# EAGLE library part BEAGLEBONE_GREEN (library Modules)
BeagleBone Green | AM335x 1GHz ARMR Cortex-A8 Development Board Homepage <https://beagleboard.org/green> | Wiki <http://wiki.seeed.cc/BeagleBone_Green/> | Schematic <https://github.com/SeeedDocument/BeagleBone_Green/raw/master/resources/BEAGLEBONE_GREEN_V1.pdf> | System Reference Manual <http://www.mouser.com/pdfdocs/Seeed-BBG_SRM_V3_20150804.pdf>
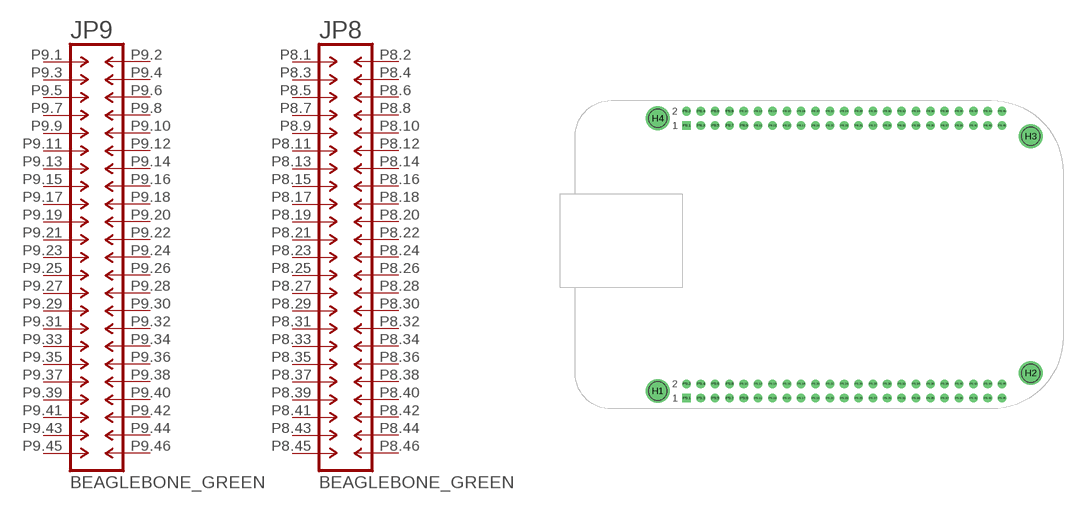
[diagram p7: symbol with the pads of BEAGLEBONE_GREEN; footprint BEAGLEBONE_GREEN]

Designator prefix J; gates P9=M2X23 P8=M2X23

## BEAGLEBONE_GREEN-M  [BEAGLEBONE_GREEN]
P8.1  P8:1  pas
P8.2  P8:2  pas
P8.3  P8:3  pas
P8.4  P8:4  pas
P8.5  P8:5  pas
P8.6  P8:6  pas
P8.7  P8:7  pas
P8.8  P8:8  pas
P8.9  P8:9  pas
P8.10  P8:10  pas
P8.11  P8:11  pas
P8.12  P8:12  pas
P8.13  P8:13  pas
P8.14  P8:14  pas
P8.15  P8:15  pas
P8.16  P8:16  pas
P8.17  P8:17  pas
P8.18  P8:18  pas
P8.19  P8:19  pas
P8.20  P8:20  pas
P8.21  P8:21  pas
P8.22  P8:22  pas
P8.23  P8:23  pas
P8.24  P8:24  pas
P8.25  P8:25  pas
P8.26  P8:26  pas
P8.27  P8:27  pas
P8.28  P8:28  pas
P8.29  P8:29  pas
P8.30  P8:30  pas
P8.31  P8:31  pas
P8.32  P8:32  pas
P8.33  P8:33  pas
P8.34  P8:34  pas
P8.35  P8:35  pas
P8.36  P8:36  pas
P8.37  P8:37  pas
P8.38  P8:38  pas
P8.39  P8:39  pas
P8.40  P8:40  pas
P8.41  P8:41  pas
P8.42  P8:42  pas
P8.43  P8:43  pas
P8.44  P8:44  pas
P8.45  P8:45  pas
P8.46  P8:46  pas
P9.1  P9:1  pas
P9.2  P9:2  pas
P9.3  P9:3  pas
P9.4  P9:4  pas
P9.5  P9:5  pas
P9.6  P9:6  pas
P9.7  P9:7  pas
P9.8  P9:8  pas
P9.9  P9:9  pas
P9.10  P9:10  pas
P9.11  P9:11  pas
P9.12  P9:12  pas
P9.13  P9:13  pas
P9.14  P9:14  pas
P9.15  P9:15  pas
P9.16  P9:16  pas
P9.17  P9:17  pas
P9.18  P9:18  pas
P9.19  P9:19  pas
P9.20  P9:20  pas
P9.21  P9:21  pas
P9.22  P9:22  pas
P9.23  P9:23  pas
P9.24  P9:24  pas
P9.25  P9:25  pas
P9.26  P9:26  pas
P9.27  P9:27  pas
P9.28  P9:28  pas
P9.29  P9:29  pas
P9.30  P9:30  pas
P9.31  P9:31  pas
P9.32  P9:32  pas
P9.33  P9:33  pas
P9.34  P9:34  pas
P9.35  P9:35  pas
P9.36  P9:36  pas
P9.37  P9:37  pas
P9.38  P9:38  pas
P9.39  P9:39  pas
P9.40  P9:40  pas
P9.41  P9:41  pas
P9.42  P9:42  pas
P9.43  P9:43  pas
P9.44  P9:44  pas
P9.45  P9:45  pas
P9.46  P9:46  pas

## Footprint BEAGLEBONE_GREEN (pad centres in mm)
BeagleBone Green | AM335x 1GHz ARMR Cortex-A8 Development Board Homepage <https://beagleboard.org/green> | Wiki <http://wiki.seeed.cc/BeagleBone_Green/> | Schematic <https://github.com/SeeedDocument/BeagleBone_Green/raw/master/resources/BEAGLEBONE_GREEN_V1.pdf> | System Reference Manual <http://www.mouser.com/pdfdocs/Seeed-BBG_SRM_V3_20150804.pdf>
drill 3.2: H1 14.605,3.175; H2 80.645,6.35; H3 80.645,48.26; H4 14.605,51.435
drill 1.016 square: P8.1 19.685,50.165; P9.1 19.685,1.905
drill 1.016: P8.2 19.685,52.705; P8.3 22.225,50.165; P8.4 22.225,52.705; P8.5 24.765,50.165; P8.6 24.765,52.705; P8.7 27.305,50.165; P8.8 27.305,52.705; P8.9 29.845,50.165; P8.10 29.845,52.705; P8.11 32.385,50.165; P8.12 32.385,52.705; P8.13 34.925,50.165; P8.14 34.925,52.705; P8.15 37.465,50.165; P8.16 37.465,52.705; P8.17 40.005,50.165; P8.18 40.005,52.705; P8.19 42.545,50.165; P8.20 42.545,52.705; P8.21 45.085,50.165; P8.22 45.085,52.705; P8.23 47.625,50.165; P8.24 47.625,52.705; P8.25 50.165,50.165; P8.26 50.165,52.705; P8.27 52.705,50.165; P8.28 52.705,52.705; P8.29 55.245,50.165; P8.30 55.245,52.705; P8.31 57.785,50.165; P8.32 57.785,52.705; P8.33 60.325,50.165; P8.34 60.325,52.705; P8.35 62.865,50.165; P8.36 62.865,52.705; P8.37 65.405,50.165; P8.38 65.405,52.705; P8.39 67.945,50.165; P8.40 67.945,52.705; P8.41 70.485,50.165; P8.42 70.485,52.705; P8.43 73.025,50.165; P8.44 73.025,52.705; P8.45 75.565,50.165; P8.46 75.565,52.705; P9.2 19.685,4.445; P9.3 22.225,1.905; P9.4 22.225,4.445; P9.5 24.765,1.905; P9.6 24.765,4.445; P9.7 27.305,1.905; P9.8 27.305,4.445; P9.9 29.845,1.905; P9.10 29.845,4.445; P9.11 32.385,1.905; P9.12 32.385,4.445; P9.13 34.925,1.905; P9.14 34.925,4.445; P9.15 37.465,1.905; P9.16 37.465,4.445; P9.17 40.005,1.905; P9.18 40.005,4.445; P9.19 42.545,1.905; P9.20 42.545,4.445; P9.21 45.085,1.905; P9.22 45.085,4.445; P9.23 47.625,1.905; P9.24 47.625,4.445; P9.25 50.165,1.905; P9.26 50.165,4.445; P9.27 52.705,1.905; P9.28 52.705,4.445; P9.29 55.245,1.905; P9.30 55.245,4.445; P9.31 57.785,1.905; P9.32 57.785,4.445; P9.33 60.325,1.905; P9.34 60.325,4.445; P9.35 62.865,1.905; P9.36 62.865,4.445; P9.37 65.405,1.905; P9.38 65.405,4.445; P9.39 67.945,1.905; P9.40 67.945,4.445; P9.41 70.485,1.905; P9.42 70.485,4.445; P9.43 73.025,1.905; P9.44 73.025,4.445; P9.45 75.565,1.905; P9.46 75.565,4.445